# Altium schematic symbol library RF_Inductors.SchLib: 17 symbols
Pins are listed as number, name and electrical type; pins without a type are passive.

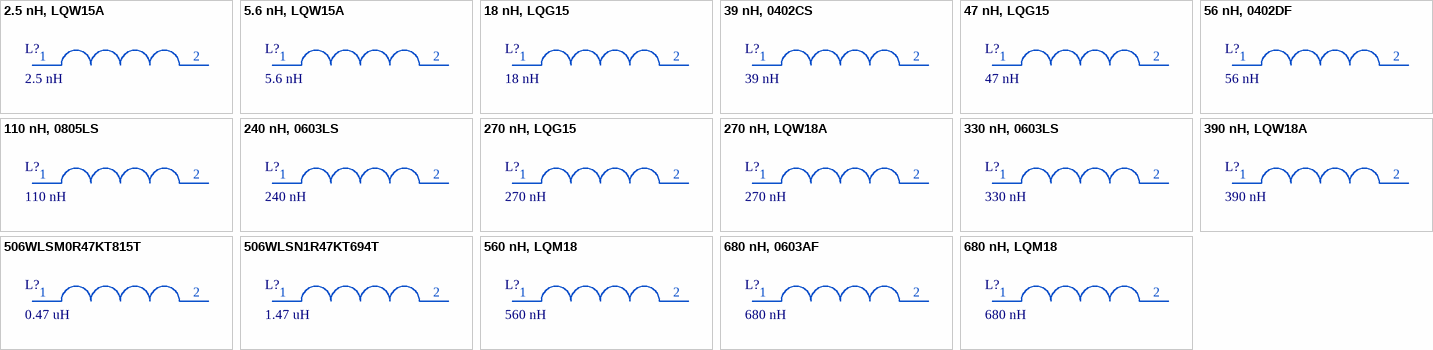
[diagram p0: symbols 2.5 nH, LQW15A to 680 nH, LQM18]

## 2.5 nH, LQW15A
designator L?, comment 2.5 nH
RF Inductors; PartNumber: LQW15AN2N5B00D; Manufacturer: Murata; Tolerance: ± 0.1 nH; Q: 20; Self resonance frequency: 15 GHz; RDC: 0.05 Ohm; ItemSubType: Chip Coil; Package: 0402; Value: 2.5 nH; ItemType: Inductor; Mounting: SMD
footprint L0402_LQW15A (RF inductor 0402)
pins: 1, 2

## 5.6 nH, LQW15A
designator L?, comment 5.6 nH
RF Inductors; PartNumber: LQW15AN5N6C10D; Manufacturer: Murata; Tolerance: ± 0.2 nH; Q: 30; Self resonance frequency: 8.5 GHz; RDC: 0.051 Ohm; ItemSubType: Chip Coil; Package: 0402; Value: 5.6 nH; ItemType: Inductor; Mounting: SMD
footprint L0402_LQW15A (RF inductor 0402)
pins: 1, 2

## 18 nH, LQG15
designator L?, comment 18 nH
RF Inductors; PartNumber: LQG15HS18NJ02D; Manufacturer: Murata; Tolerance: ± 5 %; Q: 8; Self resonance frequency: 2200 MHz; RDC: 0.36 Ohm; ItemSubType: Chip Coil; Package: 0402; Value: 18 nH; ItemType: Inductor; Mounting: SMD
footprint L0402 (RF inductor 0402)
pins: 1, 2

## 39 nH, 0402CS
designator L?, comment 39 nH
RF Inductors; PartNumber: 0402CS-39NXGLW; Manufacturer: Coircraft; Tolerance: ± 2 %; Q: 47; Self resonance frequency: 2100 MHz; RDC: 0.55 Ohm; ItemSubType: Chip Coil; Irms: 200 mA; Package: 0402; Value: 39 nH; ItemType: Inductor; Mounting: SMD
footprint L0402_0402CS (RF inductor 0402)
pins: 1, 2

## 47 nH, LQG15
designator L?, comment 47 nH
RF Inductors; PartNumber: LQG15HN47NJ02D; Manufacturer: Murata; Tolerance: ± 5 %; Q: 8; Self resonance frequency: 1000 MHz; RDC: 1.15 Ohm; ItemSubType: Chip Coil; Package: 0402; Value: 47 nH; ItemType: Inductor; Mounting: SMD
footprint L0402 (RF inductor 0402)
pins: 1, 2

## 56 nH, 0402DF
designator L?, comment 56 nH
RF Inductors; PartNumber: 0402DF-560XJR_; Manufacturer: Coircraft; Tolerance: ± 5 %; Q: 47; Self resonance frequency: 2200 MHz; RDC: 0.55 Ohm; ItemSubType: Chip Coil; Irms: 1200 mA; Package: 0402; Value: 56 nH; ItemType: Inductor; Mounting: SMD
footprint L0402_0402DF (RF inductor 0402)
pins: 1, 2

## 110 nH, 0805LS
designator L?, comment 110 nH
RF Inductors; PartNumber: 0805LS-111X_R_; Manufacturer: Coilcraft; Tolerance: ± 5 %; Q: 19; Self resonance frequency: 1200 MHz; RDC: 0.05 Ohm; ItemSubType: Chip Coil; Package: 0805; Value: 110 nH; ItemType: Inductor; Mounting: SMD
footprint L0805_0805LS-111X
pins: 1, 2

## 240 nH, 0603LS
designator L?, comment 240 nH
RF Inductors; PartNumber: 0603LS-241XJLB; Manufacturer: Coircraft; Tolerance: ± 5 %; Q: 15; Self resonance frequency: 800 MHz; RDC: 0.16 Ohm; ItemSubType: Chip Coil; Package: 0603; Value: 240 nH; ItemType: Inductor; Mounting: SMD
footprint L0603_0603LS_VIOLET (RF Inductor Coircraft 0603LS series)
pins: 1, 2

## 270 nH, LQG15
designator L?, comment 270 nH
RF Inductors; PartNumber: LQG15HSR27J02D; Manufacturer: Murata; Tolerance: ± 5 %; Q: 8; Self resonance frequency: 400 MHz; RDC: 4.94 Ohm; ItemSubType: Chip Coil; Package: 0402; Value: 270 nH; ItemType: Inductor; Mounting: SMD
footprint L0402 (RF inductor 0402)
pins: 1, 2

## 270 nH, LQW18A
designator L?, comment 270 nH
RF Inductors; PartNumber: LQW18ANR27J00D; Manufacturer: Murata; Tolerance: ± 5 %; Q: 30; Self resonance frequency: 960 MHz; RDC: 3.4 Ohm; ItemSubType: Chip Coil; Package: 0603; Value: 270 nH; ItemType: Inductor; Mounting: SMD
footprint L0603_LQW18A (RF Inductor 0603)
pins: 1, 2

## 330 nH, 0603LS
designator L?, comment 330 nH
RF Inductors; PartNumber: 0603LS-331XJLC; Manufacturer: Coircraft; Tolerance: ± 5 %; Q: 15; Self resonance frequency: 725 MHz; RDC: 0.16 Ohm; ItemSubType: Chip Coil; Marking: White dot; Package: 0603; Value: 330 nH; ItemType: Inductor; Mounting: SMD
footprint L0603_0603LS_WHITE (RF Inductor Coircraft 0603LS series)
pins: 1, 2

## 390 nH, LQW18A
designator L?, comment 390 nH
RF Inductors; PartNumber: LQW18CNR39J00D; Manufacturer: Murata; Tolerance: ± 5 %; Self resonance frequency: 570 MHz; RDC: 0.28 Ohm; ItemSubType: Chip Coil; Rated Current: 620 mA; Package: 0603; Value: 390 nH; ItemType: Inductor; Mounting: SMD
footprint L0603_LQW18A (RF Inductor 0603)
pins: 1, 2

## 506WLSM0R47KT815T
designator L?, comment 0.47 uH
RF Broadband Inductor; PartNumber: 506WLSN1R47KT694T; Manufacturer: Kyocera AVX; Tolerance: ± 10 %; RDC: 0.19 Ohm; Value: 0.47 uH; ItemType: Inductor; ItemSubType: Broadband Inductor; Mounting: SMD
footprint 506WLSM0R47KT815T (High Frequency Ultra-Broadband Inductor)
pins: 1, 2

## 506WLSN1R47KT694T
designator L?, comment 1.47 uH
RF Broadband Inductor; PartNumber: 506WLSN1R47KT694T; Manufacturer: Kyocera AVX; Tolerance: ± 10 %; RDC: 0.33 Ohm; Value: 1.47 uH; ItemType: Inductor; ItemSubType: Broadband Inductor; Mounting: SMD
footprint 506WLSN1R47KT694T (High Frequency Ultra-Broadband Inductor)
pins: 1, 2

## 560 nH, LQM18
designator L?, comment 560 nH
RF Inductors; PartNumber: LQM18NNR56K00D; Manufacturer: Murata; Tolerance: ± 5 %; Q: 15; Self resonance frequency: 95 MHz; RDC: 1.55 Ohm; ItemSubType: Chip Coil; Package: 0603; Value: 560 nH; ItemType: Inductor; Mounting: SMD
footprint L0603_LQM (RF Inductor 0603)
pins: 1, 2

## 680 nH, 0603AF
designator L?, comment 680 nH
RF Inductors; PartNumber: 0603AF-681XJEU; Manufacturer: Coircraft; Tolerance: ± 5 %; Q: 16; Self resonance frequency: 530 MHz; RDC: 0.46 Ohm; ItemSubType: Chip Coil; Package: 0603; Value: 680 nH; ItemType: Inductor; Mounting: SMD
footprint L0603_0603AF (RF Inductor Coircraft 0603AF series)
pins: 1, 2

## 680 nH, LQM18
designator L?, comment 680 nH
RF Inductors; PartNumber: LQM18NNR68K00D; Manufacturer: Murata; Tolerance: ± 5 %; Q: 15; Self resonance frequency: 90 MHz; RDC: 1.7 Ohm; ItemSubType: Chip Coil; Package: 0603; Value: 680 nH; ItemType: Inductor; Mounting: SMD
footprint L0603_LQM (RF Inductor 0603)
pins: 1, 2